# EAGLE library part M41T65 (library sensor)
The M41T6x is a low-power serial real-time clock (RTC) with a built-in 32.768 kHz oscillator. Eight registers are used for the clock/calendar function and are configured in binary-coded decimal (BCD) format. An additional eight registers provide status/control of alarm, 32 KHz output, calibration, and watchdog functions. Addresses and data are transferred serially via a two-line, bidirectional I2C interface. The built-in address register is incremented automatically after each WRITE or READ data byte. Functions available to the user include a time-of-day clock/calendar, alarm interrupts (M41T62/65), 32 KHz output (M41T62/63/64), programmable square wave output (M41T62/63/64), and watchdog output (M41T63/65). The eight clock address locations contain the century, year, month, date, day, hour, minute, second and tenths/hundredths of a second in 24-hour BCD format. Corrections for 28-, 29- (leap year), 30- and 31-day months are made automatically. The M41T6x is supplied in two very small packages: a tiny, 3 mm x 3 mm 16-pin QFN which requires a user-supplied 32 KHz crystal, and an ultra-small 1.5 mm x 3.2 mm LCC with embedded crystal - no external crystal is required.
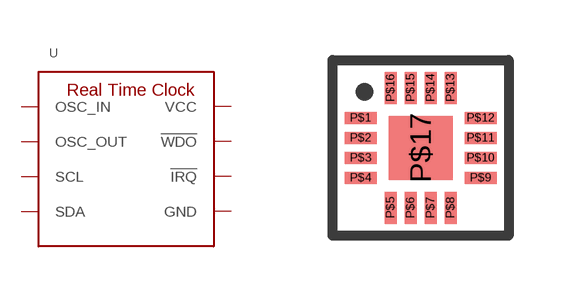
[diagram p5: symbol with the pads of QFN16(3X3); footprint QFN16(3X3)]

Designator prefix U

## M41T65  [QFN16(3X3)]
P$1  OSC_IN
P$2  OSC_OUT
P$3  GND  pwr
P$4  !WDO
P$5  GND  pwr
P$9  SDA
P$10  SCL
P$11  !IRQ
P$14  VCC  pwr
P$17  GND  pwr

## Footprint QFN16(3X3) (pad centres in mm)
smd 0.8 x 0.3: P$1 -1.5,0.75; P$2 -1.5,0.25; P$3 -1.5,-0.25; P$4 -1.5,-0.75; P$9 1.5,-0.75; P$10 1.5,-0.25; P$11 1.5,0.25; P$12 1.5,0.75
smd 0.3 x 0.8: P$5 -0.75,-1.5; P$6 -0.25,-1.5; P$7 0.25,-1.5; P$8 0.75,-1.5; P$13 0.75,1.5; P$14 0.25,1.5; P$15 -0.25,1.5; P$16 -0.75,1.5
smd 1.6 x 1.6: P$17 0,0